# EAGLE library part SIMM80 (library con-amp_edit)
AMP connector
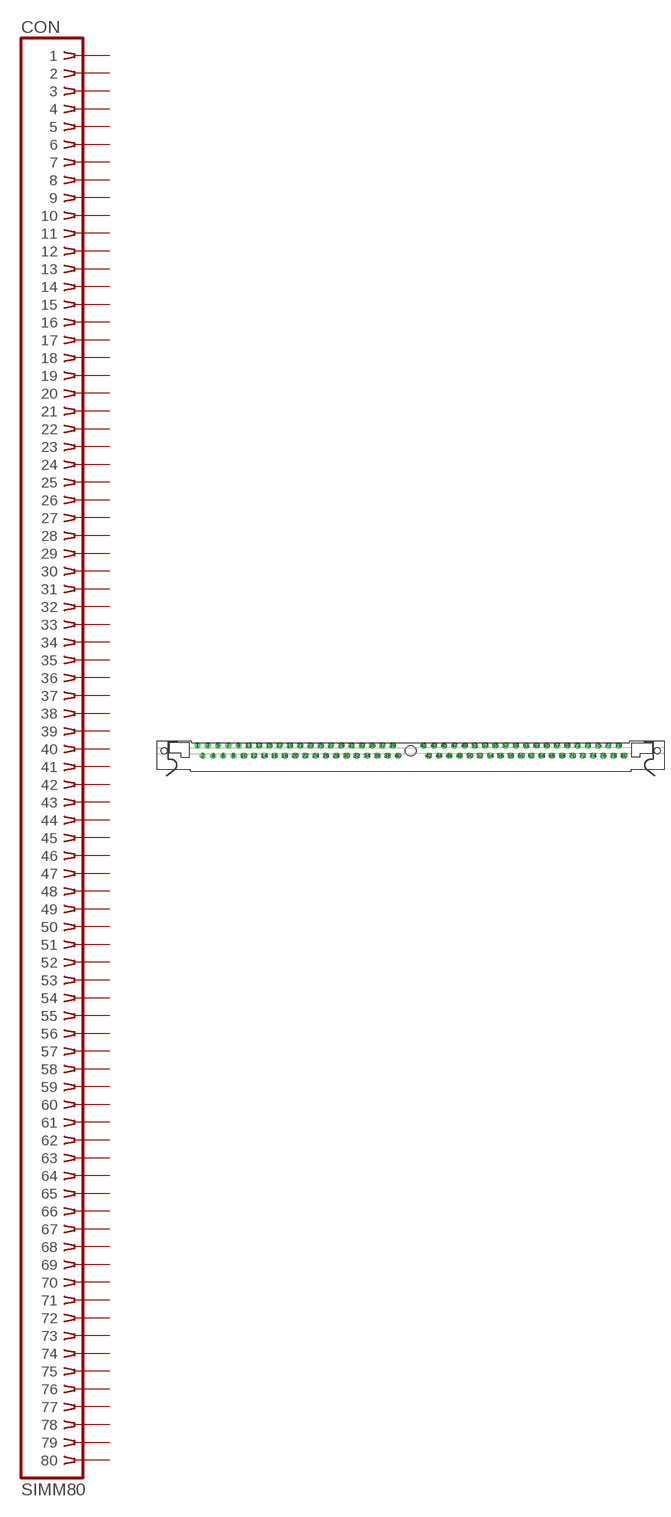
[diagram p51: symbol with the pads of 83826980; footprint 83826980]

Designator prefix CON

## SIMM80  [83826980]
1  1  pas
2  2  pas
3  3  pas
4  4  pas
5  5  pas
6  6  pas
7  7  pas
8  8  pas
9  9  pas
10  10  pas
11  11  pas
12  12  pas
13  13  pas
14  14  pas
15  15  pas
16  16  pas
17  17  pas
18  18  pas
19  19  pas
20  20  pas
21  21  pas
22  22  pas
23  23  pas
24  24  pas
25  25  pas
26  26  pas
27  27  pas
28  28  pas
29  29  pas
30  30  pas
31  31  pas
32  32  pas
33  33  pas
34  34  pas
35  35  pas
36  36  pas
37  37  pas
38  38  pas
39  39  pas
40  40  pas
41  41  pas
42  42  pas
43  43  pas
44  44  pas
45  45  pas
46  46  pas
47  47  pas
48  48  pas
49  49  pas
50  50  pas
51  51  pas
52  52  pas
53  53  pas
54  54  pas
55  55  pas
56  56  pas
57  57  pas
58  58  pas
59  59  pas
60  60  pas
61  61  pas
62  62  pas
63  63  pas
64  64  pas
65  65  pas
66  66  pas
67  67  pas
68  68  pas
69  69  pas
70  70  pas
71  71  pas
72  72  pas
73  73  pas
74  74  pas
75  75  pas
76  76  pas
77  77  pas
78  78  pas
79  79  pas
80  80  pas

## Footprint 83826980 (pad centres in mm)
SIMM II Socket
drill 1.016 octagon: 1 -52.705,1.27; 2 -51.435,-1.27; 3 -50.165,1.27; 4 -48.895,-1.27; 5 -47.625,1.27; 6 -46.355,-1.27; 7 -45.085,1.27; 8 -43.815,-1.27; 9 -42.545,1.27; 10 -41.275,-1.27; 11 -40.005,1.27; 12 -38.735,-1.27; 13 -37.465,1.27; 14 -36.195,-1.27; 15 -34.925,1.27; 16 -33.655,-1.27; 17 -32.385,1.27; 18 -31.115,-1.27; 19 -29.845,1.27; 20 -28.575,-1.27; 21 -27.305,1.27; 22 -26.035,-1.27; 23 -24.765,1.27; 24 -23.495,-1.27; 25 -22.225,1.27; 26 -20.955,-1.27; 27 -19.685,1.27; 28 -18.415,-1.27; 29 -17.145,1.27; 30 -15.875,-1.27; 31 -14.605,1.27; 32 -13.335,-1.27; 33 -12.065,1.27; 34 -10.795,-1.27; 35 -9.525,1.27; 36 -8.255,-1.27; 37 -6.985,1.27; 38 -5.715,-1.27; 39 -4.445,1.27; 40 -3.175,-1.27; 41 3.175,1.27; 42 4.445,-1.27; 43 5.715,1.27; 44 6.985,-1.27; 45 8.255,1.27; 46 9.525,-1.27; 47 10.795,1.27; 48 12.065,-1.27; 49 13.335,1.27; 50 14.605,-1.27; 51 15.875,1.27; 52 17.145,-1.27; 53 18.415,1.27; 54 19.685,-1.27; 55 20.955,1.27; 56 22.225,-1.27; 57 23.495,1.27; 58 24.765,-1.27; 59 26.035,1.27; 60 27.305,-1.27; 61 28.575,1.27; 62 29.845,-1.27; 63 31.115,1.27; 64 32.385,-1.27; 65 33.655,1.27; 66 34.925,-1.27; 67 36.195,1.27; 68 37.465,-1.27; 69 38.735,1.27; 70 40.005,-1.27; 71 41.275,1.27; 72 42.545,-1.27; 73 43.815,1.27; 74 45.085,-1.27; 75 46.355,1.27; 76 47.625,-1.27; 77 48.895,1.27; 78 50.165,-1.27; 79 51.435,1.27; 80 52.705,-1.27
hole 1.448 at -60.96,0
hole 1.448 at 60.96,0
hole 2.54 at 0,0